# EAGLE library part 256-403/333-000 (library con-wago_256)
Serie 256, Stand: 01.01.2012. Die jeweils aktuellen Daten zu diesem Artikel finden Sie in unserem Produktkatalog, den Sie unter www.wago.com einsehen können. As of: 01/01/2012. Please find the newest data for this article in our product catalogue, which can be viewed under www.wago.com.
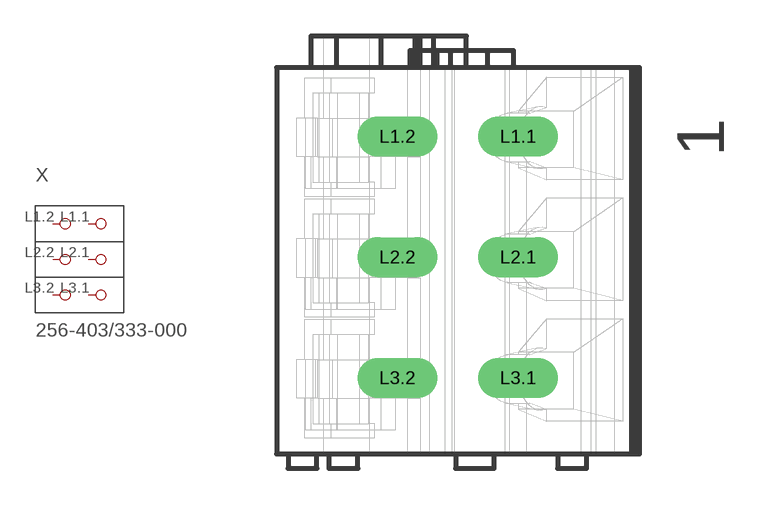
[diagram p35: symbol with the pads of P-256-403; footprint P-256-403]

Designator prefix X

## 256-403/333-000  [P-256-403]
L1.1  P1.1
L1.2  P1.2
L2.1  P2.1
L2.2  P2.2
L3.1  P3.1
L3.2  P3.2

## Footprint P-256-403 (pad centres in mm)
drill 1.1 long: L1.1 2.485,4.8; L1.2 -2.515,4.8; L2.1 2.485,-0.2; L2.2 -2.515,-0.2; L3.1 2.485,-5.2; L3.2 -2.515,-5.2